# Altium schematic symbol library STM32F103C8Tx.SchLib: 3 symbols
Pins are listed as number, name and electrical type; pins without a type are passive.

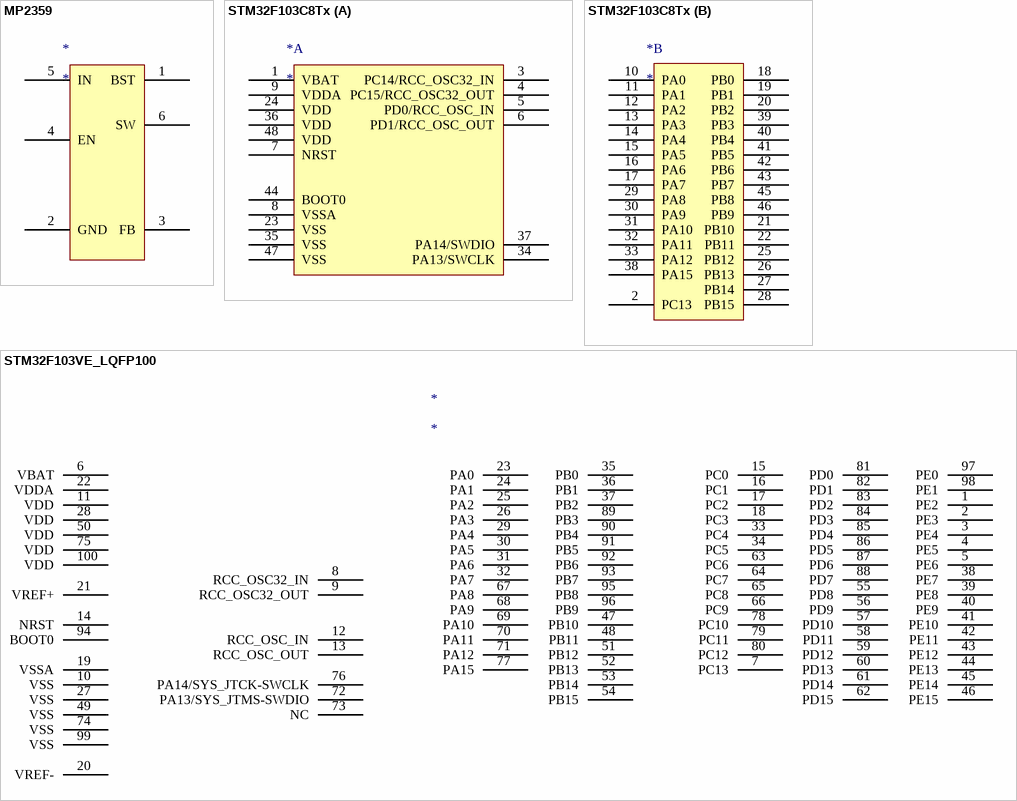
[diagram p0: symbols MP2359 to STM32F103VE_LQFP100]

## MP2359
designator *
pins: 1 BST, 2 GND, 3 FB, 4 EN, 5 IN, 6 SW

## STM32F103C8Tx
designator *
part A pins: 1 VBAT, 3 PC14/RCC_OSC32_IN, 4 PC15/RCC_OSC32_OUT, 5 PD0/RCC_OSC_IN, 6 PD1/RCC_OSC_OUT, 7 NRST, 8 VSSA, 9 VDDA, 23 VSS, 24 VDD, 34 PA13/SWCLK, 35 VSS, 36 VDD, 37 PA14/SWDIO, 44 BOOT0, 47 VSS, 48 VDD
part B pins: 2 PC13, 10 PA0, 11 PA1, 12 PA2, 13 PA3, 14 PA4, 15 PA5, 16 PA6, 17 PA7, 18 PB0, 19 PB1, 20 PB2, 21 PB10, 22 PB11, 25 PB12, 26 PB13, 27 PB14, 28 PB15, 29 PA8, 30 PA9, 31 PA10, 32 PA11, 33 PA12, 38 PA15, 39 PB3, 40 PB4, 41 PB5, 42 PB6, 43 PB7, 45 PB8, 46 PB9

## STM32F103VE_LQFP100
designator *
pins: 1 PE2, 2 PE3, 3 PE4, 4 PE5, 5 PE6, 6 VBAT, 7 PC13, 8 RCC_OSC32_IN, 9 RCC_OSC32_OUT, 10 VSS, 11 VDD, 12 RCC_OSC_IN, 13 RCC_OSC_OUT, 14 NRST, 15 PC0, 16 PC1, 17 PC2, 18 PC3, 19 VSSA, 20 VREF-, 21 VREF+, 22 VDDA, 23 PA0, 24 PA1, 25 PA2, 26 PA3, 27 VSS, 28 VDD, 29 PA4, 30 PA5, 31 PA6, 32 PA7, 33 PC4, 34 PC5, 35 PB0, 36 PB1, 37 PB2, 38 PE7, 39 PE8, 40 PE9, 41 PE10, 42 PE11, 43 PE12, 44 PE13, 45 PE14, 46 PE15, 47 PB10, 48 PB11, 49 VSS, 50 VDD, 51 PB12, 52 PB13, 53 PB14, 54 PB15, 55 PD8, 56 PD9, 57 PD10, 58 PD11, 59 PD12, 60 PD13, 61 PD14, 62 PD15, 63 PC6, 64 PC7, 65 PC8, 66 PC9, 67 PA8, 68 PA9, 69 PA10, 70 PA11, 71 PA12, 72 PA13/SYS_JTMS-SWDIO, 73 NC, 74 VSS, 75 VDD, 76 PA14/SYS_JTCK-SWCLK, 77 PA15, 78 PC10, 79 PC11, 80 PC12, 81 PD0, 82 PD1, 83 PD2, 84 PD3, 85 PD4, 86 PD5, 87 PD6, 88 PD7, 89 PB3, 90 PB4, 91 PB5, 92 PB6, 93 PB7, 94 BOOT0, 95 PB8, 96 PB9, 97 PE0, 98 PE1, 99 VSS, 100 VDD